# EAGLE library part ADA4522-2 (library analog-devices-jqi)
ADA4522, zero drift, ultra-low noise op-amp, 2 channels
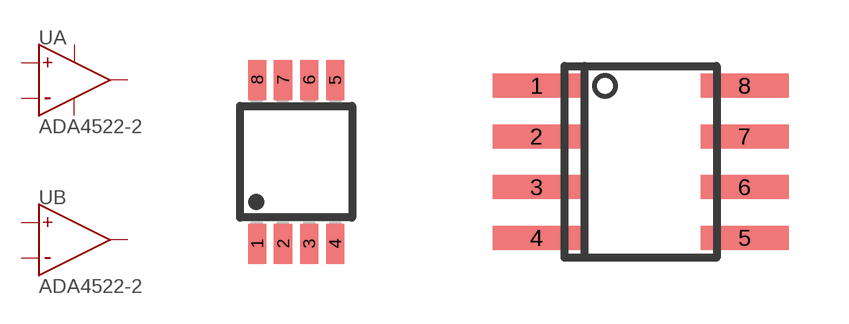
[diagram p2: symbol with the pads of MSOP8; footprints MSOP8, SO-08]

Designator prefix U; gates A=OPAMP B=OPAMP SUPPLY=OPAMP-SUPPLY

## ADA4522-2ARMZ  [MSOP8]
1  A:OUTPUT  out
2  A:-  in
3  A:+  in
4  SUPPLY:V-  pwr
5  B:+  in
6  B:-  in
7  B:OUTPUT  out
8  SUPPLY:V+  pwr

## ADA4522-2ARZ  [SO-08]
Pads as for MSOP8

## Footprint MSOP8 (pad centres in mm)
Micro Small Outline Package Grid .65mm
smd 0.45 x 1: 1 -0.975,-2.05; 2 -0.325,-2.05; 3 0.325,-2.05; 4 0.975,-2.05; 5 0.975,2.05; 6 0.325,2.05; 7 -0.325,2.05; 8 -0.975,2.05

## Footprint SO-08 (pad centres in mm)
Small Outline Narrow Plastic Gull Wing 150-mil body, package type SN
smd 2.2 x 0.6: 1 -2.6,1.905; 2 -2.6,0.635; 3 -2.6,-0.635; 4 -2.6,-1.905; 5 2.6,-1.905; 6 2.6,-0.635; 7 2.6,0.635; 8 2.6,1.905